# Altium footprint library PJS008U30000.PcbLib: 1 footprints
Each footprint in its own frame and in the unit in brackets; x right, y up, seen from the top. Pads: shape width x height; smd on the part's side, far side on the other; paste and mask are expansions set on the pad; w line width, h text height; cw(c..) or ccw(c..) is an arc to the next point about the centre after c.
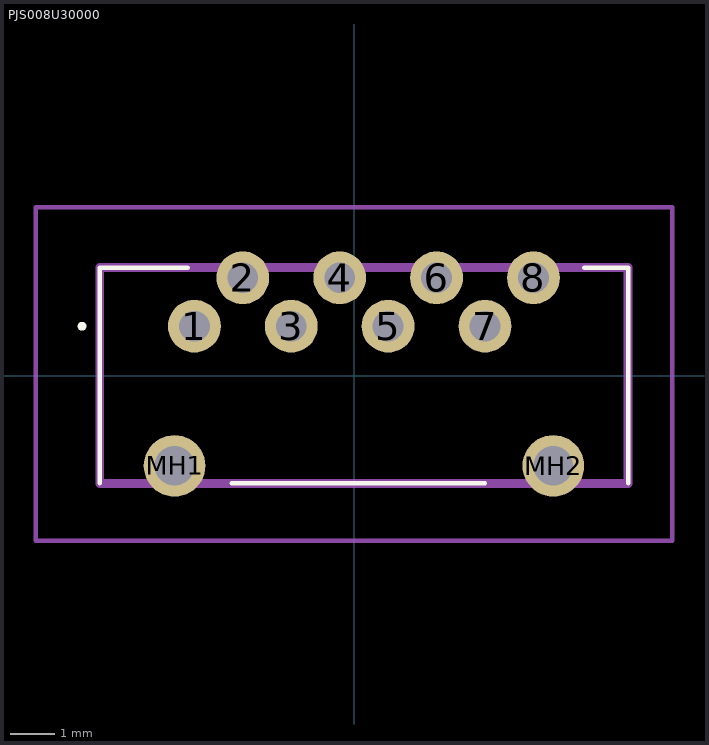
[diagram p0: the footprint, top view; thin cyan lines are the x and y axes]

## PJS008U30000 [mm]
pads (10):
  round 1.2 hole 0.7: 1(-3.625,1.12) 2(-2.525,2.22) 3(-1.425,1.12) 4(-0.325,2.22) 5(0.775,1.12) 6(1.875,2.22) 7(2.975,1.12) 8(4.075,2.22)
  round 1.4 hole 0.9: MH1(-4.075,-2.05) MH2(4.525,-2.05)
Top Overlay:
  lines w0.1: -5.775,-2.45 -5.775,2.45 -3.775,2.45 ; -2.775,-2.45 2.975,-2.45 ; 5.225,2.45 6.225,2.45 6.225,-2.45 ; -6.225,1.12 -6.225,1.12 ; -6.225,1.12 cw(c-6.175,1.12) -6.125,1.12 ; -6.225,1.12 ccw(c-6.175,1.12) -6.125,1.12 ; -6.125,1.12 -6.125,1.12
Mechanical 15:
  lines w0.2: -5.775,-2.45 6.225,-2.45 6.225,2.45 -5.775,2.45 -5.775,-2.45
Mechanical 20:
  lines w0.1: -7.225,-3.75 7.225,-3.75 7.225,3.82 -7.225,3.82 -7.225,-3.75